# Altium footprint library Res_Yageo_RC0603FR-071ML_eec_IPC_C.PcbLib: 1 footprints
Each footprint in its own frame and in the unit in brackets; x right, y up, seen from the top. Pads: shape width x height; smd on the part's side, far side on the other; paste and mask are expansions set on the pad; w line width, h text height; cw(c..) or ccw(c..) is an arc to the next point about the centre after c.
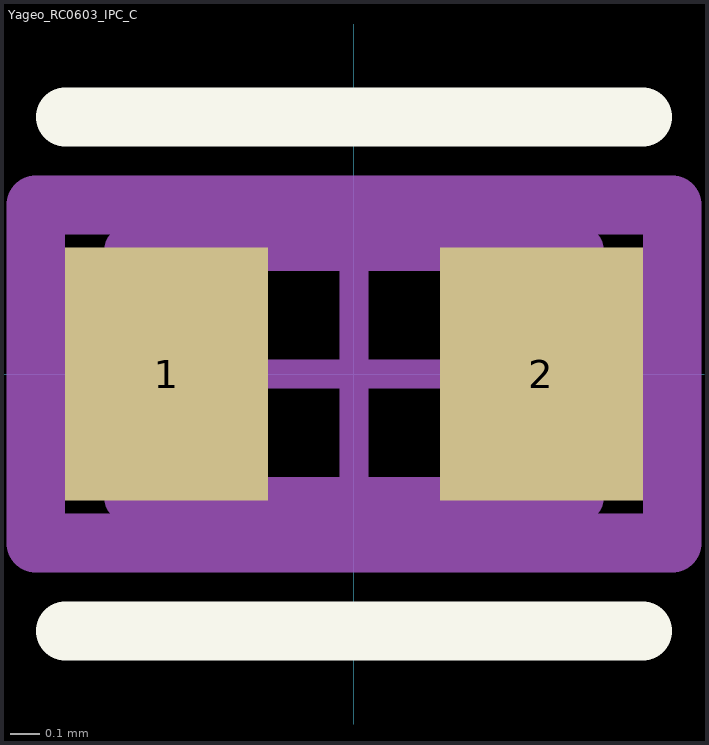
[diagram p0: the footprint, top view; thin cyan lines are the x and y axes]

## Yageo_RC0603_IPC_C [mm]
pads (2):
  rect 0.691x0.862 smd paste+0 mask+0: 1(-0.637,0) 2(0.637,0)
Top Overlay:
  lines w0.2: -0.983,-0.875 0.983,-0.875 ; -0.983,0.875 0.983,0.875
Mechanical 10:
  lines w0.2: -1.083,-0.575 1.083,-0.575 1.083,0.575 -1.083,0.575 -1.083,-0.575
  text ".Designator" at 0,0 h1
Mechanical 12:
  lines w0.15: -0.775,-0.425 0.775,-0.425 0.775,0.425 -0.775,0.425 -0.775,-0.425
Mechanical 15:
  lines w0.1: -0.5,0 0.5,0 ; 0,-0.5 0,0.5
  lines w0.2: -1.083,-0.575 1.083,-0.575 1.083,0.575 -1.083,0.575 -1.083,-0.575